# EAGLE library part LIS3MDLTR (library LIS3MDLTR)
LIS3MDL Series 3 Axis ±2/±8/±12/±16 g 3.6V High Performance Magnetometer LGA-12 Check availability <https://pricing.snapeda.com/parts/LIS3MDLTR/STMicroelectronics/view-part?ref=eda>
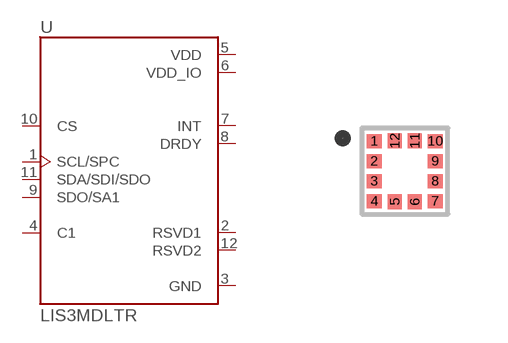
[diagram p0: symbol with the pads of XDCR_LIS3MDLTR; footprint XDCR_LIS3MDLTR]

Designator prefix U

## LIS3MDLTR (Availability: In Stock; Description: Magnetoresistive Sensor X, Y, Z Axis 12-LGA (2x2); MF: STMicroelectronics; MP: LIS3MDLTR; Package: VFLGA-12 STMicroelectronics; Price: None; Purchase-URL: https://pricing.snapeda.com/search/part/LIS3MDLTR/?ref=eda)  [XDCR_LIS3MDLTR]
1  SCL/SPC  in
2  RSVD1  pas
3  GND  pwr
4  C1  pas
5  VDD  pwr
6  VDD_IO  pwr
7  INT  out
8  DRDY  out
9  SDO/SA1
10  CS  in
11  SDA/SDI/SDO
12  RSVD2  pas

## Footprint XDCR_LIS3MDLTR (pad centres in mm)
smd 0.375 x 0.35: 1 -0.762,0.75; 2 -0.762,0.25; 3 -0.762,-0.25; 4 -0.762,-0.75; 7 0.762,-0.75; 8 0.762,-0.25; 9 0.762,0.25; 10 0.762,0.75
smd 0.35 x 0.375: 5 -0.25,-0.762; 6 0.25,-0.762; 11 0.25,0.762; 12 -0.25,0.762